# EAGLE library part 101-00303-XX (library Connector)
microSD
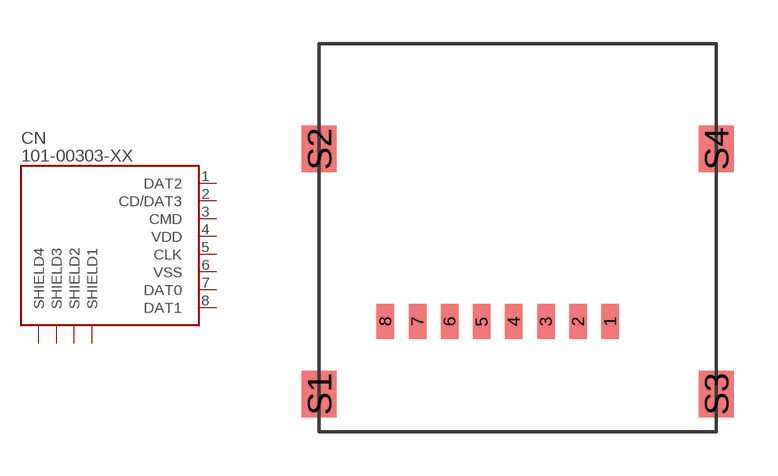
[diagram p8: symbol with the pads of 101-00303-XX; footprint 101-00303-XX]

Designator prefix CN

## 101-00303-XX  [101-00303-XX]
1  DAT2  pas
2  CD/DAT3  pas
3  CMD  pas
4  VDD  pas
5  CLK  pas
6  VSS  pas
7  DAT0  pas
8  DAT1  pas
S1  SHIELD1  pas
S2  SHIELD2  pas
S3  SHIELD3  pas
S4  SHIELD4  pas

## Footprint 101-00303-XX (pad centres in mm)
smd 0.6 x 1.2: 1 3.17,-2.82; 2 2.07,-2.82; 3 0.97,-2.82; 4 -0.13,-2.82; 5 -1.23,-2.82; 6 -2.33,-2.82; 7 -3.43,-2.82; 8 -4.53,-2.82
smd 1.2 x 1.6: S1 -6.8,-5.3; S2 -6.8,3.1; S3 6.8,-5.3; S4 6.8,3.1